# Altium footprint library B4B-EH-A.PcbLib: 1 footprints
Each footprint in its own frame and in the unit in brackets; x right, y up, seen from the top. Pads: shape width x height; smd on the part's side, far side on the other; paste and mask are expansions set on the pad; w line width, h text height; cw(c..) or ccw(c..) is an arc to the next point about the centre after c.
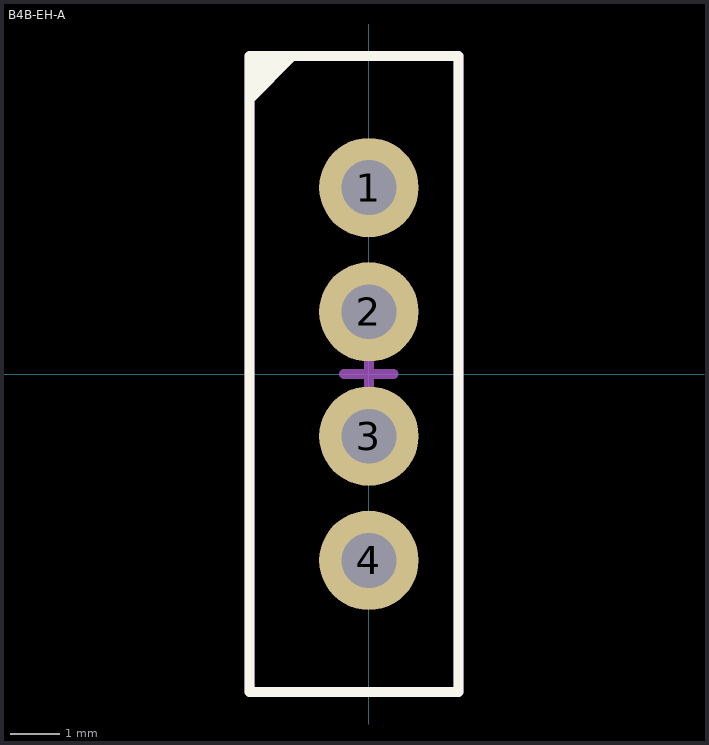
[diagram p0: the footprint, top view; thin cyan lines are the x and y axes]

## B4B-EH-A [mm] "2.5mm 4 pin male"
height 6
pads (4):
  round 2 hole 1.1: 1(0,3.75) 2(0,1.25) 3(0,-1.25) 4(0,-3.75)
Top Overlay:
  region: -2.35,6.35 -2.35,5.45 -1.45,6.35
  lines w0.2: -2.4,-6.4 1.8,-6.4 1.8,6.4 -2.4,6.4 -2.4,-6.4
Top Assembly:
  lines w0.2: -2.4,-6.4 -2.4,6.4 1.8,6.4 1.8,-6.4 -2.4,-6.4
Top Courtyard:
  lines w0.2: -2.4,-6.4 -2.4,6.4 1.8,6.4 1.8,-6.4 -2.4,-6.4
Top Component Center:
  lines w0.2: -0.5,0 0.5,0 ; 0,-0.5 0,0.5
3D body "JST-B4B-EH-A.STEP": height 6, standoff -3.2, extent -2.2,-6.25 1.6,6.25